# EAGLE library part MOCD217M (library all-chips)
MOCD2XXM ON Semiconductor Dual-Channel Phototransistor Output Optocoupler
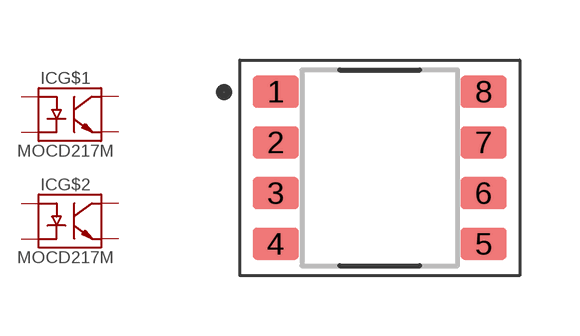
[diagram p6: symbol with the pads of SOIC8_3.90X4.90MM; footprint SOIC8_3.90X4.90MM]

Designator prefix IC; gates G$1=OPTOCOUPLER-1CH G$2=OPTOCOUPLER-1CH

## MOCD217M  [SOIC8_3.90X4.90MM]
1  G$1:AN  pas
2  G$1:CA  pas
3  G$2:AN  pas
4  G$2:CA  pas
5  G$2:EM  pas
6  G$2:CO  pas
7  G$1:EM  pas
8  G$1:CO  pas

## Footprint SOIC8_3.90X4.90MM (pad centres in mm)
https://www.analog.com/media/en/package-pcb-resources/package/pkg_pdf/ltc-legacy-soic/05081610_G_SO8.pdf
smd 1.15 x 0.8: 1 -2.6,1.905; 2 -2.6,0.635; 3 -2.6,-0.635; 4 -2.6,-1.905; 5 2.6,-1.905; 6 2.6,-0.635; 7 2.6,0.635; 8 2.6,1.905